# EAGLE library part 693071020811 (library Wurth_Connectors_WR-CRD)
WR-CRD Micro SD Card Connector Push & Push 8 pins KIND PROPERTIES Quality Class 10 000 Mating cycles Gender Socket Type Push & Push General Information Operating Temperature -25 up to +85 °C; -40 up to +85 °C Compliance RoHS Electrical Properties Working Voltage 30 V (AC); 100 V (AC) Withstanding Voltage 500 V (AC) Contact Resistance 100 mΩ Contact Resistance 500 mΩ Material Properties Insulator Material LCP Insulator Flammability Rating UL94 V-0 Insulator Color Black Color Black Cover Material Stainless Steel Contact Material Copper Alloy Contact Plating 1 u' on contact area; Selective Gold Contact Type Stamped <hhttps://www.we-online.com/components/media/o32845v209%20Family_ConCRD_693071010811.jpg> Details see: www.we-online.com/en/components/products/CRD_SD_MICRO_PUSH_AND_PULL_8_PINS Updated by Ella Wu 2020-04-15 2020(C) Wurth Elektronik
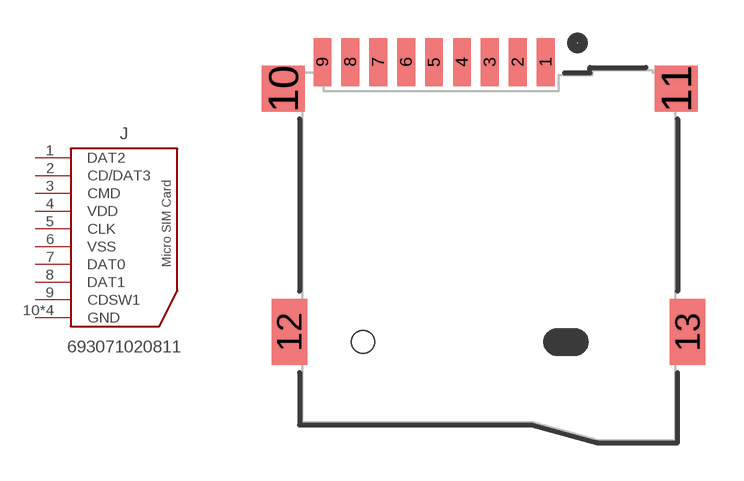
[diagram p11: symbol with the pads of 693071020811; footprint 693071020811]

Designator prefix J

## 693071020811 (DATASHEET-URL: https://www.we-online.com/redexpert/spec/693071020811?ae; GERDER: Socket; IR: 0.5A; MOUNT: SMT; PART-NUMBER: 693071020811; PINS: 8; TYPE: Push & Push; VALUE: 693071020811; WORKING-VOLTAGE: 30V(AC))  [693071020811]
1  DAT2
2  CD/DAT3
3  CMD
4  VDD
5  CLK
6  VSS
7  DAT0
8  DAT1
9  CDSW1
10  GND
11  GND
12  GND
13  GND

## Footprint 693071020811 (pad centres in mm)
WR-CRD Micro SD Card Connector Push & Push 8 pins
smd 0.7 x 1.9: 1 2.25,11.05; 2 1.15,11.05; 3 0.05,11.05; 4 -1.05,11.05; 5 -2.15,11.05; 6 -3.25,11.05; 7 -4.35,11.05; 8 -5.45,11.05; 9 -6.55,11.05
smd 1.7 x 1.8: 10 -8.1,10; 11 7.4,10
smd 1.4 x 2.6: 12 -7.85,0.4; 13 7.85,0.4
hole 0.9 at -4.95,0
hole 1 at 3.05,0